# EAGLE library part FFKV5 (library con-phoenix-508b)
PHOENIX
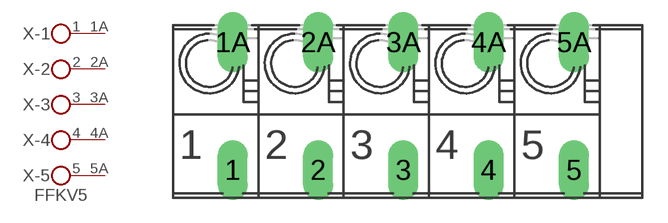
[diagram p24: symbol with the pads of FFKV5; footprint FFKV5]

Designator prefix X; gates -1=KL2 -2=KL2 -3=KL2 -4=KL2 -5=KL2V

## FFKV5  [FFKV5]
1  -1:1  pas
1A  -1:2  pas
2  -2:1  pas
2A  -2:2  pas
3  -3:1  pas
3A  -3:2  pas
4  -4:1  pas
4A  -4:2  pas
5  -5:1  pas
5A  -5:2  pas

## Footprint FFKV5 (pad centres in mm)
PHOENIX
drill 1.194 long: 1 -10.16,-3.81; 1A -10.16,3.81; 2 -5.08,-3.81; 2A -5.08,3.81; 3 0,-3.81; 3A 0,3.81; 4 5.08,-3.81; 4A 5.08,3.81; 5 10.16,-3.81; 5A 10.16,3.81